# EAGLE library part LC4032ZE_XXTN48_S (library clock)
ispMACH 4032ZE TQFP48, Split Lattice Semiconductor Corporation - ispMACH 4000ZE Ultra Low Power, Low Cost CPLD Family Generated using Lattice BSDL models: http://www.latticesemi.com/dynamic/index.cfm?fuseaction=view_documents&document_type=36&sloc=01-01-02-01&source=sidebar
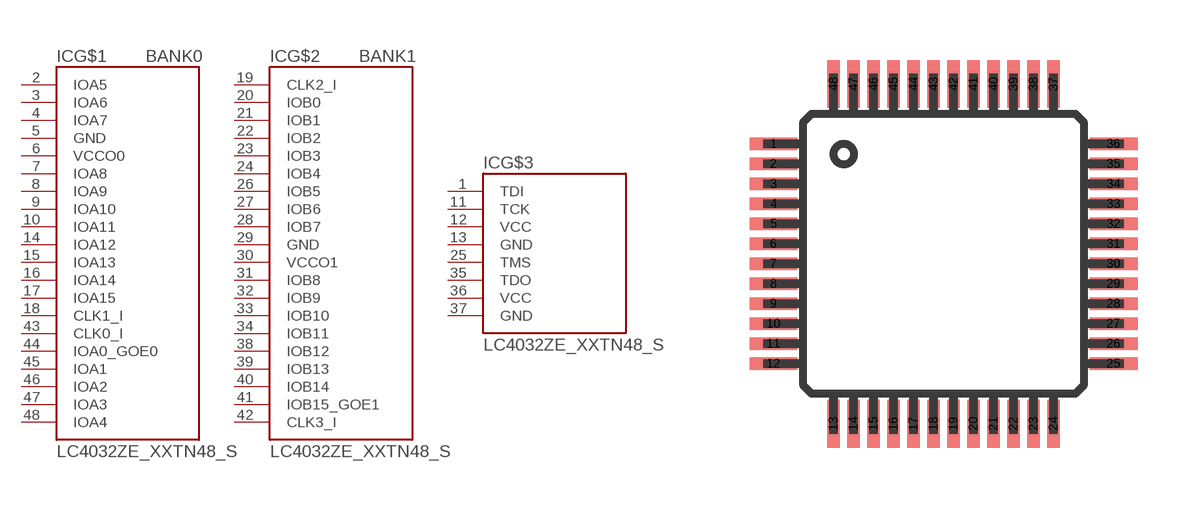
[diagram p1: symbol with the pads of TQFP48; footprint TQFP48]

Designator prefix IC; gates G$1=ISPMACH_LC4032ZE_TN48_PARTA G$2=ISPMACH_LC4032ZE_TN48_PARTB G$3=ISPMACH_LC4032ZE_TN48_PARTC

## LC4032ZE_XXTN48_S  [TQFP48]
1  G$3:TDI  in
2  G$1:IOA5
3  G$1:IOA6
4  G$1:IOA7
5  G$1:GND  pwr
6  G$1:VCCO0  pwr
7  G$1:IOA8
8  G$1:IOA9
9  G$1:IOA10
10  G$1:IOA11
11  G$3:TCK  in
12  G$3:VCC  pwr
13  G$3:GND  pwr
14  G$1:IOA12
15  G$1:IOA13
16  G$1:IOA14
17  G$1:IOA15
18  G$1:CLK1_I  in
19  G$2:CLK2_I  in
20  G$2:IOB0
21  G$2:IOB1
22  G$2:IOB2
23  G$2:IOB3
24  G$2:IOB4
25  G$3:TMS  in
26  G$2:IOB5
27  G$2:IOB6
28  G$2:IOB7
29  G$2:GND  pwr
30  G$2:VCCO1  pwr
31  G$2:IOB8
32  G$2:IOB9
33  G$2:IOB10
34  G$2:IOB11
35  G$3:TDO  out
36  G$3:VCC  pwr
37  G$3:GND  pwr
38  G$2:IOB12
39  G$2:IOB13
40  G$2:IOB14
41  G$2:IOB15_GOE1
42  G$2:CLK3_I  in
43  G$1:CLK0_I  in
44  G$1:IOA0_GOE0
45  G$1:IOA1
46  G$1:IOA2
47  G$1:IOA3
48  G$1:IOA4

## Footprint TQFP48 (pad centres in mm)
TQFP - 48 http://www.latticesemi.com/lit/docs/package/pkg.pdf
smd 1.2 x 0.32: 1 -4.25,2.75; 2 -4.25,2.25; 3 -4.25,1.75; 4 -4.25,1.25; 5 -4.25,0.75; 6 -4.25,0.25; 7 -4.25,-0.25; 8 -4.25,-0.75; 9 -4.25,-1.25; 10 -4.25,-1.75; 11 -4.25,-2.25; 12 -4.25,-2.75; 25 4.25,-2.75; 26 4.25,-2.25; 27 4.25,-1.75; 28 4.25,-1.25; 29 4.25,-0.75; 30 4.25,-0.25; 31 4.25,0.25; 32 4.25,0.75; 33 4.25,1.25; 34 4.25,1.75; 35 4.25,2.25; 36 4.25,2.75
smd 0.32 x 1.2: 13 -2.75,-4.25; 14 -2.25,-4.25; 15 -1.75,-4.25; 16 -1.25,-4.25; 17 -0.75,-4.25; 18 -0.25,-4.25; 19 0.25,-4.25; 20 0.75,-4.25; 21 1.25,-4.25; 22 1.75,-4.25; 23 2.25,-4.25; 24 2.75,-4.25; 37 2.75,4.25; 38 2.25,4.25; 39 1.75,4.25; 40 1.25,4.25; 41 0.75,4.25; 42 0.25,4.25; 43 -0.25,4.25; 44 -0.75,4.25; 45 -1.25,4.25; 46 -1.75,4.25; 47 -2.25,4.25; 48 -2.75,4.25